# Altium footprint library footprint_RES0805.PcbLib: 1 footprints
Each footprint in its own frame and in the unit in brackets; x right, y up, seen from the top. Pads: shape width x height; smd on the part's side, far side on the other; paste and mask are expansions set on the pad; w line width, h text height; cw(c..) or ccw(c..) is an arc to the next point about the centre after c.
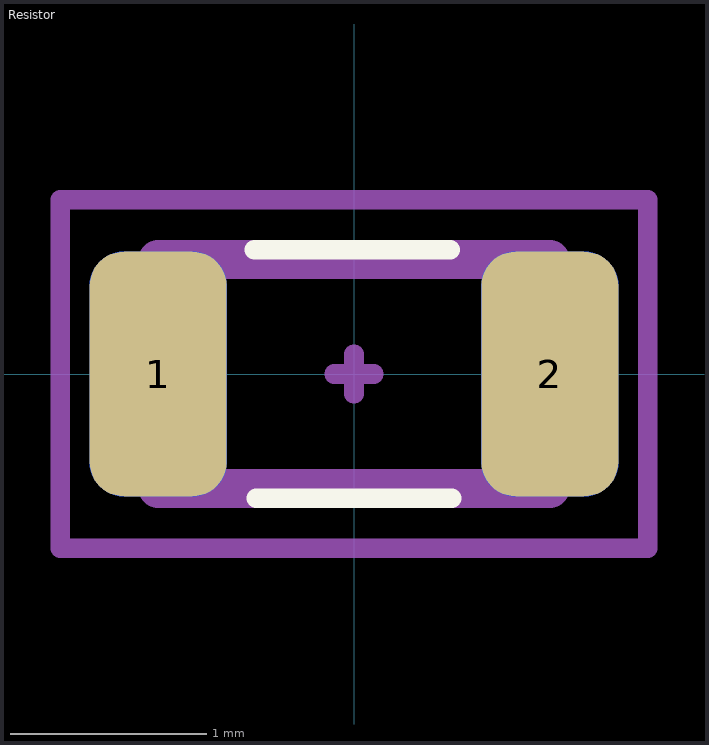
[diagram p0: the footprint, top view; thin cyan lines are the x and y axes]

## Resistor [mm]
pads (4):
  rrect50% 0.7x1.25 smd: 1(-1,0) 2(1,0)
  rrect50% 0.7x1.25 smd far side: 1(-1,0) 2(1,0)
Top Overlay:
  lines w0.1: -0.508,0.635 0.492,0.635 ; -0.5,-0.635 0.5,-0.635
Bottom Overlay:
  lines w0.1: -0.508,-0.635 0.492,-0.635 ; -0.5,0.635 0.5,0.635
Top component center:
  lines w0.1: -0.1,0 0,0 ; 0,-0.1 0,0 ; 0,0.1 0,0 ; 0.1,0 0,0
Bottom component center:
  lines w0.1: -0.1,0 0.1,0 ; 0,-0.1 0,0 0,0.1
Top:
  lines w0.2: -1,-0.584 1,-0.584 1,0.584 -1,0.584 -1,-0.584
Bottom:
  lines w0.2: -1,-0.584 -1,0.584 1,0.584 1,-0.584 -1,-0.584
Top Designator:
  text ".Designator" at -1.471,1.346 h1.52
Top countyard:
  lines w0.1: -1.5,-0.889 -1.5,0.889 1.5,0.889 1.5,-0.889 -1.5,-0.889
Bottom countyard:
  lines w0.1: -1.5,-0.889 -1.5,0.889 1.5,0.889 1.5,-0.889 -1.5,-0.889
3D body "0805_PAN.step": height 0.61, standoff 0, extent -1.105,-0.673 1.105,0.673
3D body "0805_PAN.step": height 0.61, standoff 0, extent -1.105,-0.673 1.105,0.673